# Altium schematic symbol library TSW-103-07-G-D.SchLib: 1 symbol
Pins are listed as number, name and electrical type; pins without a type are passive.

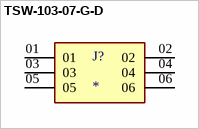
[diagram p0: symbol TSW-103-07-G-D]

## TSW-103-07-G-D
designator J?
MF: {'manufacturer': u'Samtec'}; MP: TSW-103-07-G-D; Package: None; Price: None; Value: *; Availability: Unavailable
footprint SAMTEC_TSW-103-07-G-D
pins: 01, 02, 03, 04, 05, 06